# Altium schematic symbol library 2021-07-08_17-12-07.SchLib: 2 symbols
Pins are listed as number, name and electrical type; pins without a type are passive.

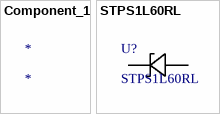
[diagram p0: symbols Component_1 to STPS1L60RL]

## Component_1
designator *

## STPS1L60RL
designator U?
No Description Available; Vendor: STMicroelectronics; Built_By: EMA_UL_Team; SourceLibrary: Add_to_database_2021-01-20; Manufacturer_Part_Number: STPS1L60RL; Copyright: Copyright (C) 2018 Accelerated Designs. All rights reserved; RefDes: RefDes; Type: DEV
footprint SMA_STM
pins: 1, 2